# Altium footprint library Packaging.PcbLib: 4 footprints
Each footprint in its own frame and in the unit in brackets; x right, y up, seen from the top. Pads: shape width x height; smd on the part's side, far side on the other; paste and mask are expansions set on the pad; w line width, h text height; cw(c..) or ccw(c..) is an arc to the next point about the centre after c.
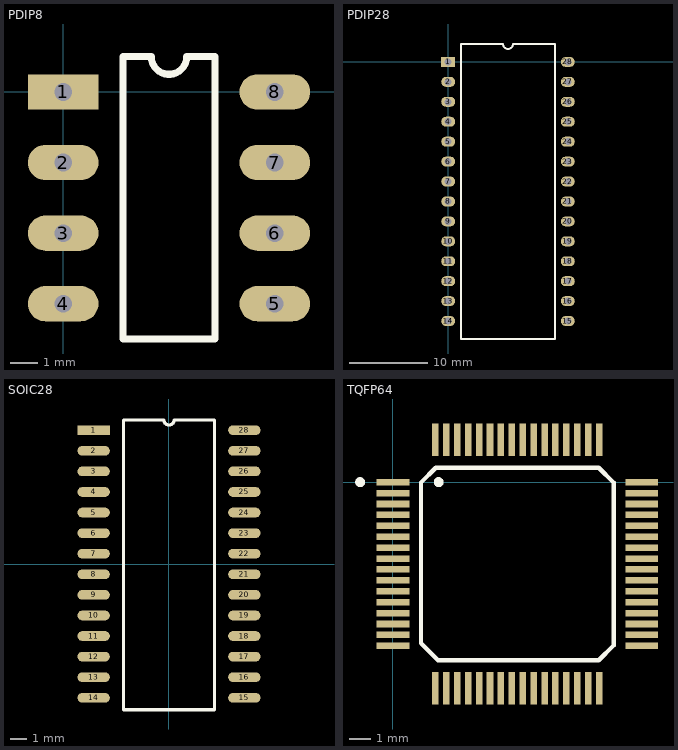
[diagram p0: the footprints below, top view; thin cyan lines are the x and y axes]

## PDIP8 [mm]
pads (8):
  rect 2.54x1.27 hole 0.635: 1(0,0)
  oval 2.54x1.27 hole 0.635: 2(0,-2.54) 3(0,-5.08) 4(0,-7.62) 5(7.62,-7.62) 6(7.62,-5.08) 7(7.62,-2.54) 8(7.62,0)
Top Overlay:
  lines w0.254: 2.159,-8.89 2.159,1.27 3.175,1.27 ccw(c3.81,1.27) 4.445,1.27 5.461,1.27 5.461,-8.89 2.159,-8.89
3D body: height 1.27, standoff 1.02, extent 0.127,-0.635 0.635,0.635
3D body: height 1.27, standoff 0, extent -0.127,-0.635 0.127,0.635
3D body: height 0, standoff -3.17, extent -0.127,-0.19 0.127,0.191
3D body: height 1.27, standoff 1.02, extent 0.127,-3.175 0.635,-1.905
3D body: height 1.27, standoff 0, extent -0.127,-3.175 0.127,-1.905
3D body: height 0, standoff -3.17, extent -0.127,-2.73 0.127,-2.349
3D body: height 1.27, standoff 1.02, extent 0.127,-5.715 0.635,-4.445
3D body: height 1.27, standoff 0, extent -0.127,-5.715 0.127,-4.445
3D body: height 0, standoff -3.17, extent -0.127,-5.27 0.127,-4.889
3D body: height 1.27, standoff 1.02, extent 0.127,-8.255 0.635,-6.985
3D body: height 1.27, standoff 0, extent -0.127,-8.255 0.127,-6.985
3D body: height 0, standoff -3.17, extent -0.127,-7.81 0.127,-7.429
3D body: height 1.27, standoff 1.02, extent 6.985,-0.635 7.493,0.635
3D body: height 1.27, standoff 0, extent 7.493,-0.635 7.747,0.635
3D body: height 0, standoff -3.17, extent 7.493,-0.191 7.747,0.19
3D body: height 1.27, standoff 1.02, extent 6.985,-3.175 7.493,-1.905
3D body: height 1.27, standoff 0, extent 7.493,-3.175 7.747,-1.905
3D body: height 0, standoff -3.17, extent 7.493,-2.731 7.747,-2.35
3D body: height 1.27, standoff 1.02, extent 6.985,-5.715 7.493,-4.445
3D body: height 1.27, standoff 0, extent 7.493,-5.715 7.747,-4.445
3D body: height 0, standoff -3.17, extent 7.493,-5.271 7.747,-4.89
3D body: height 1.27, standoff 1.02, extent 6.985,-8.255 7.493,-6.985
3D body: height 1.27, standoff 0, extent 7.493,-8.255 7.747,-6.985
3D body: height 0, standoff -3.17, extent 7.493,-7.811 7.747,-7.43
3D body: height 2.54, standoff 0.38, extent 0.635,-8.89 6.985,1.273

## PDIP28 [mil]
pads (28):
  rect 70x50 hole 35: 1(0,0)
  oval 70x50 hole 35: 2(0,-100) 3(0,-200) 4(0,-300) 5(0,-400) 6(0,-500) 7(0,-600) 8(0,-700) 9(0,-800) 10(0,-900) 11(0,-1000) 12(0,-1100) 13(0,-1200) 14(0,-1300) 15(600,-1300) 16(600,-1200) 17(600,-1100) 18(600,-1000) 19(600,-900) 20(600,-800) 21(600,-700) 22(600,-600) 23(600,-500) 24(600,-400) 25(600,-300) 26(600,-200) 27(600,-100) 28(600,0)
Top Overlay:
  lines w10: 63.78,-1390 63.78,90 275,90 ccw(c300,90) 325,90 536.22,90 536.22,-1390 63.78,-1390
3D body: height 0, standoff -125, extent 595,-7.5 605,7.5
3D body: height 50, standoff 0, extent 595,-25 605,25
3D body: height 50, standoff 40, extent 575,-25 595,25
3D body: height 0, standoff -125, extent 595,-107.5 605,-92.5
3D body: height 50, standoff 0, extent 595,-125 605,-75
3D body: height 50, standoff 40, extent 575,-125 595,-75
3D body: height 0, standoff -125, extent 595,-207.5 605,-192.5
3D body: height 50, standoff 0, extent 595,-225 605,-175
3D body: height 50, standoff 40, extent 575,-225 595,-175
3D body: height 0, standoff -125, extent 595,-307.5 605,-292.5
3D body: height 50, standoff 0, extent 595,-325 605,-275
3D body: height 50, standoff 40, extent 575,-325 595,-275
3D body: height 0, standoff -125, extent 595,-407.5 605,-392.5
3D body: height 50, standoff 0, extent 595,-425 605,-375
3D body: height 50, standoff 40, extent 575,-425 595,-375
3D body: height 0, standoff -125, extent 595,-507.5 605,-492.5
3D body: height 50, standoff 0, extent 595,-525 605,-475
3D body: height 50, standoff 40, extent 575,-525 595,-475
3D body: height 0, standoff -125, extent 595,-607.5 605,-592.5
3D body: height 50, standoff 0, extent 595,-625 605,-575
3D body: height 50, standoff 40, extent 575,-625 595,-575
3D body: height 0, standoff -125, extent 595,-707.5 605,-692.5
3D body: height 50, standoff 0, extent 595,-725 605,-675
3D body: height 50, standoff 40, extent 575,-725 595,-675
3D body: height 0, standoff -125, extent 595,-807.5 605,-792.5
3D body: height 50, standoff 0, extent 595,-825 605,-775
3D body: height 50, standoff 40, extent 575,-825 595,-775
3D body: height 0, standoff -125, extent 595,-907.5 605,-892.5
3D body: height 50, standoff 0, extent 595,-925 605,-875
3D body: height 50, standoff 40, extent 575,-925 595,-875
3D body: height 0, standoff -125, extent 595,-1007.5 605,-992.5
3D body: height 50, standoff 0, extent 595,-1025 605,-975
3D body: height 50, standoff 40, extent 575,-1025 595,-975
3D body: height 0, standoff -125, extent 595,-1107.5 605,-1092.5
3D body: height 50, standoff 0, extent 595,-1125 605,-1075
3D body: height 50, standoff 40, extent 575,-1125 595,-1075
3D body: height 0, standoff -125, extent 595,-1207.5 605,-1192.5
3D body: height 50, standoff 0, extent 595,-1225 605,-1175
3D body: height 50, standoff 40, extent 575,-1225 595,-1175
3D body: height 0, standoff -125, extent 595,-1307.5 605,-1292.5
3D body: height 50, standoff 0, extent 595,-1325 605,-1275
3D body: height 50, standoff 40, extent 575,-1325 595,-1275
3D body: height 0, standoff -125, extent -5,-1307.5 5,-1292.5
3D body: height 50, standoff 0, extent -5,-1325 5,-1275
3D body: height 50, standoff 40, extent 5,-1325 25,-1275
3D body: height 0, standoff -125, extent -5,-1207.5 5,-1192.5
3D body: height 50, standoff 0, extent -5,-1225 5,-1175
3D body: height 50, standoff 40, extent 5,-1225 25,-1175
3D body: height 0, standoff -125, extent -5,-1107.5 5,-1092.5
3D body: height 50, standoff 0, extent -5,-1125 5,-1075
3D body: height 50, standoff 40, extent 5,-1125 25,-1075
3D body: height 0, standoff -125, extent -5,-1007.5 5,-992.5
3D body: height 50, standoff 0, extent -5,-1025 5,-975
3D body: height 50, standoff 40, extent 5,-1025 25,-975
3D body: height 0, standoff -125, extent -5,-907.5 5,-892.5
3D body: height 50, standoff 0, extent -5,-925 5,-875
3D body: height 50, standoff 40, extent 5,-925 25,-875
3D body: height 0, standoff -125, extent -5,-807.5 5,-792.5
3D body: height 50, standoff 0, extent -5,-825 5,-775
3D body: height 50, standoff 40, extent 5,-825 25,-775
3D body: height 0, standoff -125, extent -5,-707.5 5,-692.5
3D body: height 50, standoff 0, extent -5,-725 5,-675
3D body: height 50, standoff 40, extent 5,-725 25,-675
3D body: height 0, standoff -125, extent -5,-607.5 5,-592.5
3D body: height 50, standoff 0, extent -5,-625 5,-575
3D body: height 50, standoff 40, extent 5,-625 25,-575
3D body: height 0, standoff -125, extent -5,-507.5 5,-492.5
3D body: height 50, standoff 0, extent -5,-525 5,-475
3D body: height 50, standoff 40, extent 5,-525 25,-475
3D body: height 0, standoff -125, extent -5,-407.5 5,-392.5
3D body: height 50, standoff 0, extent -5,-425 5,-375
3D body: height 50, standoff 40, extent 5,-425 25,-375
3D body: height 0, standoff -125, extent -5,-307.5 5,-292.5
3D body: height 50, standoff 0, extent -5,-325 5,-275
3D body: height 50, standoff 40, extent 5,-325 25,-275
3D body: height 0, standoff -125, extent -5,-207.5 5,-192.5
3D body: height 50, standoff 0, extent -5,-225 5,-175
3D body: height 50, standoff 40, extent 5,-225 25,-175
3D body: height 0, standoff -125, extent -5,-107.5 5,-92.5
3D body: height 50, standoff 0, extent -5,-125 5,-75
3D body: height 50, standoff 40, extent 5,-125 25,-75
3D body: height 0, standoff -125, extent -5,-7.5 5,7.5
3D body: height 50, standoff 0, extent -5,-25 5,25
3D body: height 50, standoff 40, extent 5,-25 25,25
3D body: height 100, standoff 15, extent 25,-1390 575,90.09

## SOIC28 [mm]
pads (28):
  rect 2x0.6 smd: 1(-4.65,8.255)
  oval 2x0.6 smd: 2(-4.65,6.985) 3(-4.65,5.715) 4(-4.65,4.445) 5(-4.65,3.175) 6(-4.65,1.905) 7(-4.65,0.635) 8(-4.65,-0.635) 9(-4.65,-1.905) 10(-4.65,-3.175) 11(-4.65,-4.445) 12(-4.65,-5.715) 13(-4.65,-6.985) 14(-4.65,-8.255) 15(4.65,-8.255) 16(4.65,-6.985) 17(4.65,-5.715) 18(4.65,-4.445) 19(4.65,-3.175) 20(4.65,-1.905) 21(4.65,-0.635) 22(4.65,0.635) 23(4.65,1.905) 24(4.65,3.175) 25(4.65,4.445) 26(4.65,5.715) 27(4.65,6.985) 28(4.65,8.255)
Top Overlay:
  lines w0.2: -2.815,-9 -2.815,8.89 -0.318,8.89 ccw(c0,8.89) 0.318,8.89 2.815,8.89 2.815,-9 -2.815,-9
3D body: height 0.51, standoff 0, extent 3.75,8.001 5.25,8.509
3D body: height 0.51, standoff 0, extent 3.75,6.731 5.25,7.239
3D body: height 0.51, standoff 0, extent 3.75,5.461 5.25,5.969
3D body: height 0.51, standoff 0, extent 3.75,4.191 5.25,4.699
3D body: height 0.51, standoff 0, extent 3.75,2.921 5.25,3.429
3D body: height 0.51, standoff 0, extent 3.75,1.651 5.25,2.159
3D body: height 0.51, standoff 0, extent 3.75,0.381 5.25,0.889
3D body: height 0.51, standoff 0, extent 3.75,-0.889 5.25,-0.381
3D body: height 0.51, standoff 0, extent 3.75,-2.159 5.25,-1.651
3D body: height 0.51, standoff 0, extent 3.75,-3.429 5.25,-2.921
3D body: height 0.51, standoff 0, extent 3.75,-4.699 5.25,-4.191
3D body: height 0.51, standoff 0, extent 3.75,-5.969 5.25,-5.461
3D body: height 0.51, standoff 0, extent 3.75,-7.239 5.25,-6.731
3D body: height 0.51, standoff 0, extent 3.75,-8.509 5.25,-8.001
3D body: height 0.51, standoff 0, extent -5.25,-8.509 -3.75,-8.001
3D body: height 0.51, standoff 0, extent -5.25,-7.239 -3.75,-6.731
3D body: height 0.51, standoff 0, extent -5.25,-5.969 -3.75,-5.461
3D body: height 0.51, standoff 0, extent -5.25,-4.699 -3.75,-4.191
3D body: height 0.51, standoff 0, extent -5.25,-3.429 -3.75,-2.921
3D body: height 0.51, standoff 0, extent -5.25,-2.159 -3.75,-1.651
3D body: height 0.51, standoff 0, extent -5.25,-0.889 -3.75,-0.381
3D body: height 0.51, standoff 0, extent -5.25,0.381 -3.75,0.889
3D body: height 0.51, standoff 0, extent -5.25,1.651 -3.75,2.159
3D body: height 0.51, standoff 0, extent -5.25,2.921 -3.75,3.429
3D body: height 0.51, standoff 0, extent -5.25,4.191 -3.75,4.699
3D body: height 0.51, standoff 0, extent -5.25,5.461 -3.75,5.969
3D body: height 0.51, standoff 0, extent -5.25,6.731 -3.75,7.239
3D body: height 0.51, standoff 0, extent -5.25,8.001 -3.75,8.509
3D body: height 1.75, standoff 0, extent -3.75,-9 3.75,8.891

## TQFP64 [mm]
pads (64):
  rect 1.5x0.3 smd: 1(0,0) 2(0,-0.5) 3(0,-1) 4(0,-1.5) 5(0,-2) 6(0,-2.5) 7(0,-3) 8(0,-3.5) 9(0,-4) 10(0,-4.5) 11(0,-5) 12(0,-5.5) 13(0,-6) 14(0,-6.5) 15(0,-7) 16(0,-7.5) 33(11.4,-7.5) 34(11.4,-7) 35(11.4,-6.5) 36(11.4,-6) 37(11.4,-5.5) 38(11.4,-5) 39(11.4,-4.5) 40(11.4,-4) 41(11.4,-3.5) 42(11.4,-3) 43(11.4,-2.5) 44(11.4,-2) 45(11.4,-1.5) 46(11.4,-1) 47(11.4,-0.5) 48(11.4,0)
  rect 0.3x1.5 smd: 17(1.95,-9.45) 18(2.45,-9.45) 19(2.95,-9.45) 20(3.45,-9.45) 21(3.95,-9.45) 22(4.45,-9.45) 23(4.95,-9.45) 24(5.45,-9.45) 25(5.95,-9.45) 26(6.45,-9.45) 27(6.95,-9.45) 28(7.45,-9.45) 29(7.95,-9.45) 30(8.45,-9.45) 31(8.95,-9.45) 32(9.45,-9.45) 49(9.45,1.95) 50(8.95,1.95) 51(8.45,1.95) 52(7.95,1.95) 53(7.45,1.95) 54(6.95,1.95) 55(6.45,1.95) 56(5.95,1.95) 57(5.45,1.95) 58(4.95,1.95) 59(4.45,1.95) 60(3.95,1.95) 61(3.45,1.95) 62(2.95,1.95) 63(2.45,1.95) 64(1.95,1.95)
Top Overlay:
  circle w0.254: c2.1,0 r0.1
  circle w0.254: c-1.5,0 r0.1
  lines w0.2: 1.285,-7.385 1.285,-0.015 1.965,0.665 9.435,0.665 10.115,-0.015 10.115,-7.485 9.435,-8.165 2.065,-8.165 1.285,-7.385
3D body: height 1.2, standoff 0, extent 1.284,-8.165 10.115,0.666